# Altium footprint library PCB - CONNECTOR - PHOENIX - PHOENIX 1727023.PcbLib: 1 footprints
Each footprint in its own frame and in the unit in brackets; x right, y up, seen from the top. Pads: shape width x height; smd on the part's side, far side on the other; paste and mask are expansions set on the pad; w line width, h text height; cw(c..) or ccw(c..) is an arc to the next point about the centre after c.
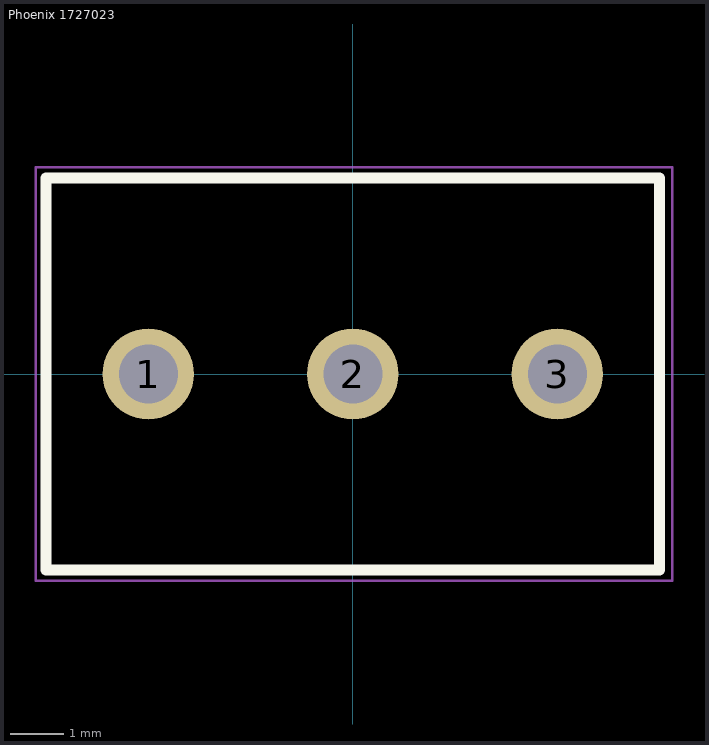
[diagram p0: the footprint, top view; thin cyan lines are the x and y axes]

## Phoenix 1727023 [mm] "Wire to Board Terminal Block Horizontal with Board Through Hole, 3 Position,3.81 mm Pitch, 11.43x7.3 mm Body"
height 8.5
pads (3):
  round 1.7 hole 1.1: 1(-3.81,0) 2(0,0) 3(3.81,0)
Top Overlay:
  lines w0.2: -5.715,-3.65 -5.715,3.65 5.715,3.65 5.715,-3.65 -5.715,-3.65
Mechanical 1:
  lines w0.1: -5.715,-3.65 -5.715,3.65 5.715,3.65 5.715,-3.65 -5.715,-3.65
Mechanical 15 (Mech15):
  lines w0.05: -5.905,-3.85 -5.905,3.85 5.95,3.85 5.95,-3.85 -5.905,-3.85
3D body "Phoenix Contact - 1727023 v3.step": height 8.5, standoff -3.5, extent -5.715,-3.65 5.715,3.65